# EAGLE library part TL4242DRJR (library TL4242DRJR)
ADJUSTABLE LED DRIVER
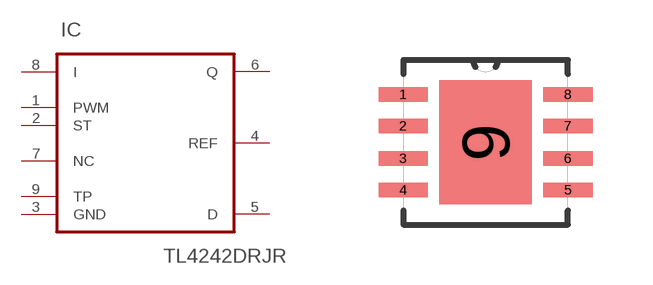
[diagram p0: symbol with the pads of SON80P410X410X80-9N; footprint SON80P410X410X80-9N]

Designator prefix IC

## TL4242DRJR (AVAILABILITY: Unavailable; DESCRIPTION: LED DRVR 5V/9V/12V/15V/18V/24V 8-Pin WSON EP T/R; MF: Texas Instruments; MP: TL4242DRJR; PACKAGE: WSON-8 Texas Instruments; PRICE: None)  [SON80P410X410X80-9N]
1  PWM  in
2  ST  out
3  GND  pas
4  REF  in
5  D  in
6  Q  out
7  NC  nc
8  I  in
9  TP  pas

## Footprint SON80P410X410X80-9N (pad centres in mm)
smd 1.232 x 0.356: 1 -2.061,1.194; 2 -2.061,0.406; 3 -2.061,-0.406; 4 -2.061,-1.194; 5 2.061,-1.194; 6 2.061,-0.406; 7 2.061,0.406; 8 2.061,1.194
smd 2.311 x 3.099: 9 0,0